# EAGLE library part IV-22 (library TimeExpander)
Soviet IV-22 VFD tube
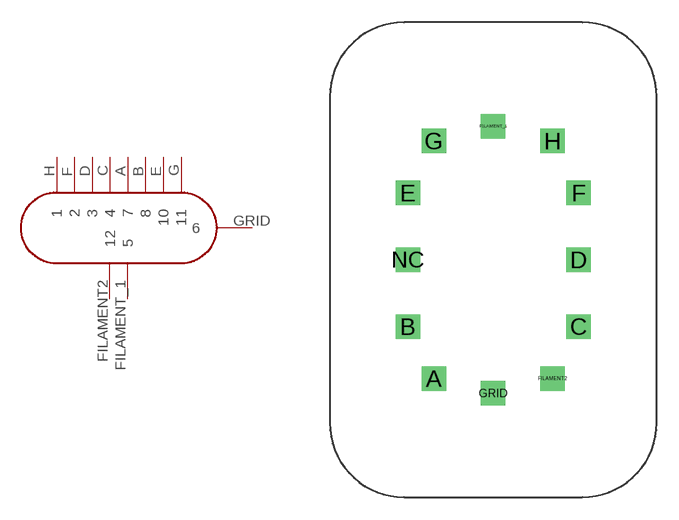
[diagram p1: symbol with the pads of IV-22; footprint IV-22]

Designator prefix -

## IV-22 (VALUE: IV-22)  [IV-22]
A  7
B  8
C  4
D  3
E  10
F  2
FILAMENT2  12
FILAMENT_1  5
G  11
GRID  6
H  1

## Footprint IV-22 (pad centres in mm)
IN-12
drill 1.1 square: A -4,-8; B -5.75,-4.5; C 5.75,-4.5; D 5.75,0; E -5.75,4.5; F 5.75,4.5; FILAMENT2 4,-8; FILAMENT_1 0,9; G -4,8; GRID 0,-9; H 4,8; NC -5.75,0